# EAGLE library part PINS_10_2X5 (library act-global-nolan)
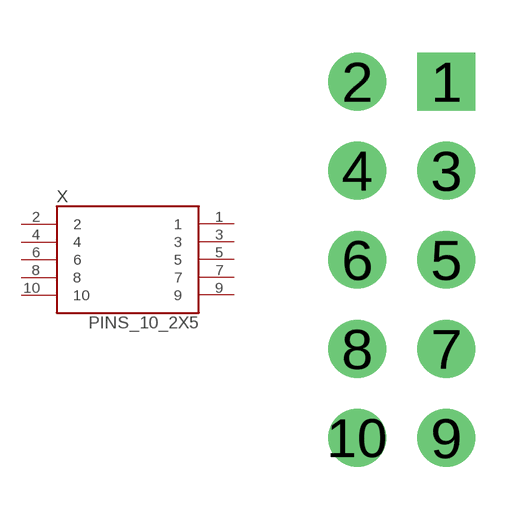
[diagram p27: symbol with the pads of PINS_10-2X5; footprint PINS_10-2X5]

Designator prefix X

## PINS_10_2X5  [PINS_10-2X5]
1  1
2  2
3  3
4  4
5  5
6  6
7  7
8  8
9  9
10  10

## Footprint PINS_10-2X5 (pad centres in mm)
drill 1.1 square: 1 0,0
drill 1.1: 2 -2.54,0; 3 0,-2.54; 4 -2.54,-2.54; 5 0,-5.08; 6 -2.54,-5.08; 7 0,-7.62; 8 -2.54,-7.62; 9 0,-10.16; 10 -2.54,-10.16